# Altium footprint library SML-LX0603GW-TR.PcbLib: 1 footprints
Each footprint in its own frame and in the unit in brackets; x right, y up, seen from the top. Pads: shape width x height; smd on the part's side, far side on the other; paste and mask are expansions set on the pad; w line width, h text height; cw(c..) or ccw(c..) is an arc to the next point about the centre after c.
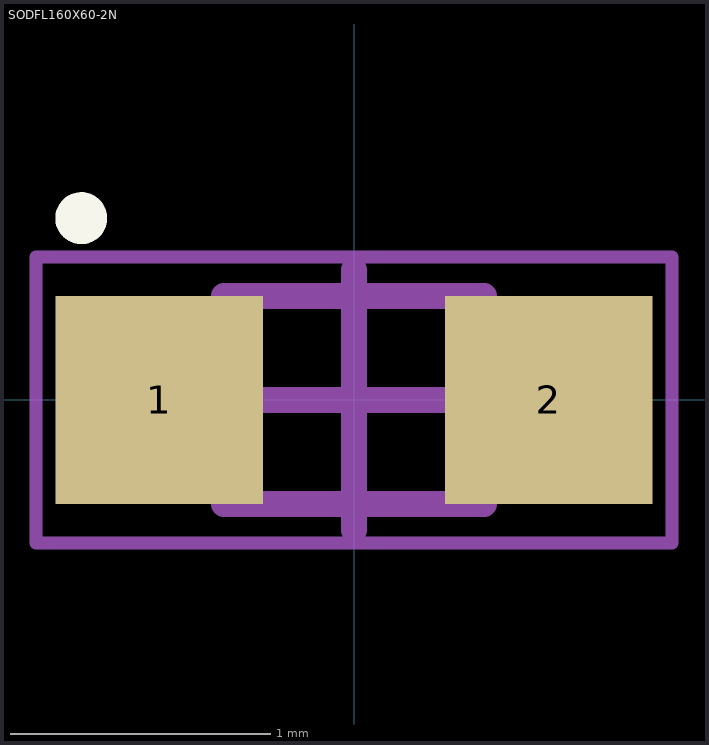
[diagram p0: the footprint, top view; thin cyan lines are the x and y axes]

## SODFL160X60-2N [mm] "SODFL, 2-Leads, Body 0.80x1.60mm, IPC Medium Density"
height 0.6
pads (2):
  rect 0.8x0.8 smd: 1(-0.75,0) 2(0.75,0)
Top Overlay:
  circle w0.1: c-1.05,0.7 r0.05
Mechanical 13:
  lines w0.1: -0.5,-0.4 0.5,-0.4 0.5,0.4 -0.5,0.4 -0.5,-0.4
Mechanical 15:
  lines w0.05: -1.225,-0.55 1.225,-0.55 1.225,0.55 -1.225,0.55 -1.225,-0.55
  lines w0.1: -0.5,0 0.5,0 ; 0,-0.5 0,0.5
3D body: height 0.6, standoff 0, extent -0.5,-0.4 0.5,0.4